# EAGLE library part USB3.0-RECEP-A (library neels)
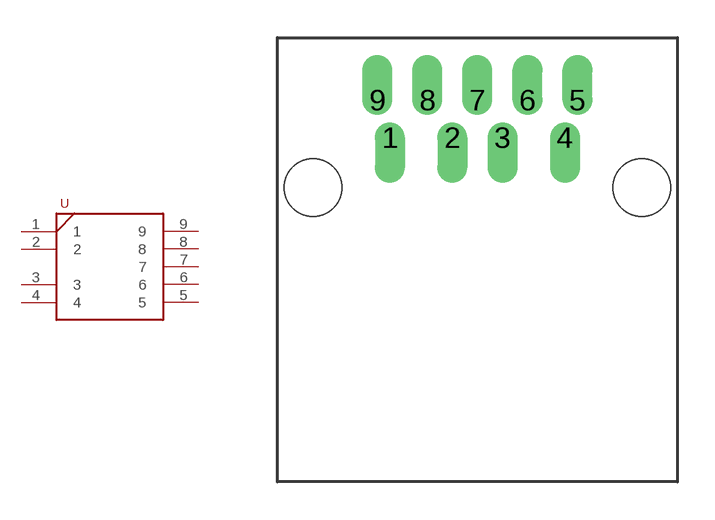
[diagram p1: symbol with the pads of USB3.0-RECEP-A; footprint USB3.0-RECEP-A]

Designator prefix -

## USB3.0-RECEP-A  [USB3.0-RECEP-A]
1  1
2  2
3  3
4  4
5  5
6  6
7  7
8  8
9  9

## Footprint USB3.0-RECEP-A (pad centres in mm)
drill 0.7 offset: 1 -3.5,0; 2 -1,0; 3 1,0; 4 3.5,0; 5 4,1.5; 6 2,1.5; 7 0,1.5; 8 -2,1.5; 9 -4,1.5
hole 2.3 at -6.57,-2
hole 2.3 at 6.57,-2